# EAGLE library part H-BRIDGE (library BayouBot)
H Bridge Motor Driver The SN754410 1A Motor Driver
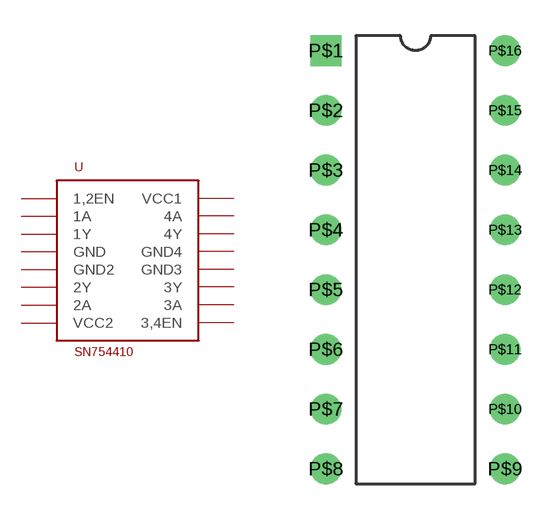
[diagram p0: symbol with the pads of DIP16; footprint DIP16]

Designator prefix U

## H-BRIDGE  [DIP16]
P$1  1,2EN
P$2  1A
P$3  1Y
P$4  GND
P$5  GND2
P$6  2Y
P$7  2A
P$8  VCC2
P$9  3,4EN
P$10  3A
P$11  3Y
P$12  GND3
P$13  GND4
P$14  4Y
P$15  4A
P$16  VCC1

## Footprint DIP16 (pad centres in mm)
A generic DIL/DIP 16 pin package.
drill 0.8 square: P$1 -3.81,8.89
drill 0.8: P$2 -3.81,6.35; P$3 -3.81,3.81; P$4 -3.81,1.27; P$5 -3.81,-1.27; P$6 -3.81,-3.81; P$7 -3.81,-6.35; P$8 -3.81,-8.89; P$9 3.81,-8.89; P$10 3.81,-6.35; P$11 3.81,-3.81; P$12 3.81,-1.27; P$13 3.81,1.27; P$14 3.81,3.81; P$15 3.81,6.35; P$16 3.81,8.89